# EAGLE library part TSM-106-XX-X-SH-A (library samtec)
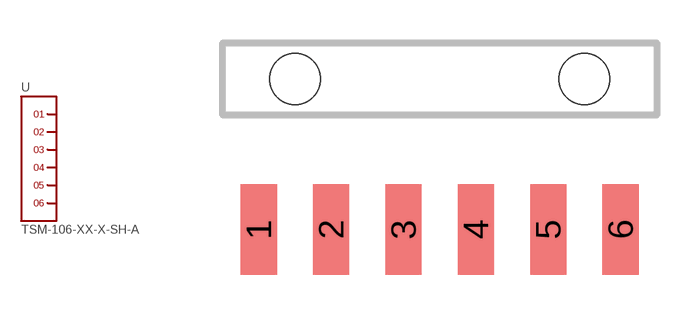
[diagram p7: symbol with the pads of TSM-106-XX-X-SH-A; footprint TSM-106-XX-X-SH-A]

Designator prefix -

## TSM-106-XX-X-SH-A  [TSM-106-XX-X-SH-A]
1  1
2  2
3  3
4  4
5  5
6  6

## Footprint TSM-106-XX-X-SH-A (pad centres in mm)
Terminal Strip, Dual Row Horizontal, Surface Mount, 0.100 inch Pitch, 6Pins
smd 1.27 x 3.175: 1 -6.35,0; 2 -3.81,0; 3 -1.27,0; 4 1.27,0; 5 3.81,0; 6 6.35,0
hole 1.778 at -5.08,5.283
hole 1.778 at 5.08,5.283